# Altium footprint library DA14580.PcbLib: 18 footprints (part 1 of 2)
Each footprint in its own frame and in the unit in brackets; x right, y up, seen from the top. Pads: shape width x height; smd on the part's side, far side on the other; paste and mask are expansions set on the pad; w line width, h text height; cw(c..) or ccw(c..) is an arc to the next point about the centre after c.
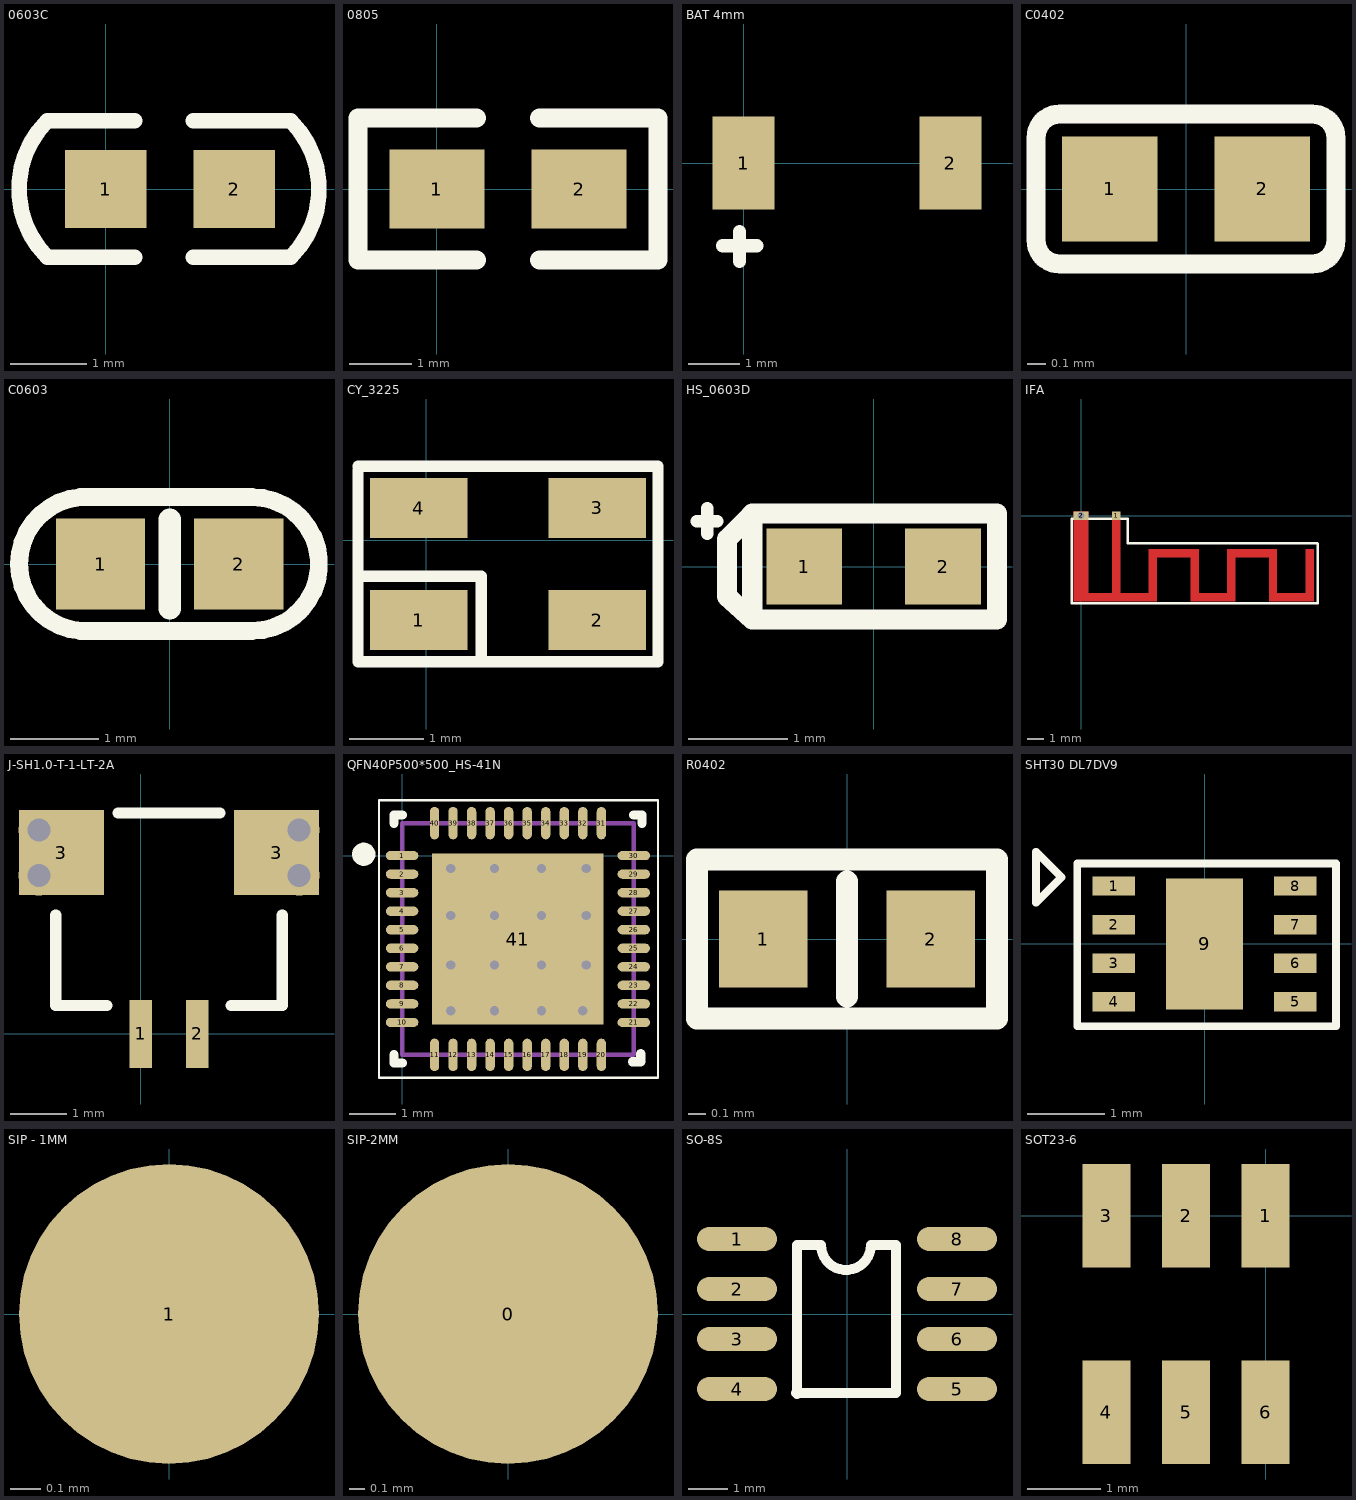
[diagram p0: the footprints below, top view; thin cyan lines are the x and y axes]

## 0603C [mil]
pads (2):
  rect 42x40 smd: 1(0,0) 2(66,0)
Top Overlay:
  lines w8: 15,-35 -30,-35 cw(c5,0) -30,35 15,35 ; 45,-35 95,-35 ccw(c60,0) 95,35 45,35

## 0805 [mil]
pads (2):
  rect 60x50 smd: 1(0,0) 2(90,0)
Top Overlay:
  lines w12: 25,-45 -50,-45 -50,45 25,45 ; 65,-45 140,-45 140,45 65,45

## BAT 4mm [mm]
height 0.305
pads (2):
  rect 1.2x1.8 smd: 1(0,0) 2(4,0)
Top Overlay:
  lines w0.254: -0.406,-1.6 0.254,-1.6 ; -0.076,-1.905 -0.076,-1.321

## C0402 [mil]
height 47.24
pads (2):
  rect 20x22 smd: 1(-16,0) 2(16,0)
Top Overlay:
  lines w4: -31.5,-10.75 ccw(c-26.5,-10.75) -26.5,-15.75 26.5,-15.75 ccw(c26.5,-10.75) 31.5,-10.75 31.5,10.75 ccw(c26.5,10.75) 26.5,15.75 -26.5,15.75 ccw(c-26.5,10.75) -31.5,10.75 -31.5,-10.75

## C0603 [mil]
pads (2):
  rect 40x41 smd: 1(-31,0) 2(31,0)
Top Overlay:
  lines w8: -40.03,30 ccw(c-37.51,0) -39.97,-30 ; -40,-30 37,-30 ccw(c37,0) 37,30 -40,30
  lines w10: 0,-20 0,20
3D body "User Library-0603 SMD Capacitor.step": height 12.49, standoff 0.6, extent -30.49,-14.74 32.5,16.76

## CY_3225 [mm]
pads (4):
  rect 1.3x0.8 smd: 1(-0.102,-1.067) 2(2.286,-1.067) 3(2.286,0.432) 4(-0.102,0.432)
Top Overlay:
  lines w0.152: -0.914,-1.473 -0.914,-1.397 ; -0.914,-0.483 0.737,-0.483 0.737,-1.626 ; -0.914,0.94 -0.914,-1.626 2.997,-1.626 ; -0.914,0.991 2.997,0.991 ; 1.448,0.991 3.099,0.991 3.099,-1.626 2.921,-1.626

## HS_0603D [mil]
height 100
pads (2):
  rect 30x30 smd: 1(-27.5,0) 2(27.5,0)
Top Overlay:
  lines w5: -70,18 -62,18 ; -66,13 -66,23
  lines w8: -49,20 -58.12,10.88 -58.12,-11.87 -48.12,-21 ; -48.12,20 -48.12,-21 ; -48.12,21 48.88,21 48.88,-21 -48.12,-21

## IFA [mm]
pads (17):
  rect 0.5x0.5 smd mask+0.003: 1(2.1,0)
  rect 0.9x0.5 smd mask+0.003: 2(0,0)
  rect 0.9x0.5 on Top Solder mask+0.003: 2(0,0)
  oval 0.7x0.5 hole 0.4 mask+0.01: 2(0,0)
  rect 0.5x0.5 on Top Solder mask+0: ""(0.2,-4.9)
  rect 0.5x0.5 on Top Solder mask+0.003: ""(2.1,-4.4) ""(2.1,0) ""(4.3,-4.9) ""(4.3,-2.26) ""(6.8,-4.9) ""(6.8,-2.26) ""(9,-4.9) ""(9,-2.26) ""(11.5,-4.9) ""(11.5,-2.26) ""(13.7,-4.9) ""(13.7,-2.26)
Top Layer:
  region: 13.45,-2.01 13.45,-5.15 13.95,-5.15 13.95,-2.01
  region: 11.25,-4.65 11.25,-5.15 13.95,-5.15 13.95,-4.65
  region: 11.75,-2.51 11.75,-2.01 9.048,-2.01 9.048,-2.51
  region: 11.25,-2.01 11.25,-5.15 11.75,-5.15 11.75,-2.01
  region: 4.05,-2.01 4.05,-5.15 4.55,-5.15 4.55,-2.01
  region: 1.849,-0.093 1.849,-4.9 2.35,-4.9 2.35,-0.093
  region: -0.45,0.25 -0.45,-5.15 0.449,-5.15 0.449,0.25
  region: 4.05,-2.01 4.05,-2.51 7.05,-2.51 7.05,-2.01
  region: 6.549,-2.01 6.549,-5.15 7.051,-5.15 7.051,-2.01
  region: 6.549,-4.65 6.549,-5.151 9.25,-5.151 9.25,-4.65
  region: 8.75,-2.01 8.75,-5.15 9.25,-5.15 9.25,-2.01
  lines w0.5: 0.2,-4.9 4.3,-4.9
Top Overlay:
  lines w0.15: 14.142,-1.67 2.8,-1.67 2.8,-0.175 -0.559,-0.175 -0.559,-5.258 14.173,-5.258 14.173,-1.676
Top Solder:
  lines w0.5: 0.2,-4.9 4.3,-4.9 4.3,-2.26 6.8,-2.26 6.8,-4.9 9,-4.9 9,-2.26 11.5,-2.26 11.5,-4.9 13.7,-4.9 13.7,-2.26 ; 2.1,-4.9 2.1,0
  lines w0.9: 0,-4.7 0,-0.2

## J-SH1.0-T-1-LT-2A [mm]
pads (4):
  rect 0.4x1.2 smd: 1(0,0) 2(1,0)
  rect 1.5x1.5 smd: 3(-1.4,3.2) 3(2.4,3.2)
via 2.8,2.8 diameter 0.711 hole 0.406
via 2.8,3.6 diameter 0.711 hole 0.406
via -1.8,3.6 diameter 0.711 hole 0.406
via -1.8,2.8 diameter 0.711 hole 0.406
Top Overlay:
  lines w0.2: -1.5,2.1 -1.5,0.5 -0.6,0.5 ; -0.4,3.9 1.4,3.9 ; 1.6,0.5 2.5,0.5 2.5,2.1

## QFN40P500*500_HS-41N [mm] "QFN, 44-Leads, Body 5.00x5.00mm, Pitch 0.40mm, Thermal Pad 2.45x2.45mm, IPC Medium Density"
height 0.8
pads (41):
  oval 0.7x0.2 smd: 1(0,0) 2(0,-0.4) 3(0,-0.8) 4(0,-1.2) 5(0,-1.6) 6(0,-2) 7(0,-2.4) 8(0,-2.8) 9(0,-3.2) 10(0,-3.6) 21(5,-3.6) 22(5,-3.2) 23(5,-2.8) 24(5,-2.4) 25(5,-2) 26(5,-1.6) 27(5,-1.2) 28(5,-0.8) 29(5,-0.4) 30(5,0)
  oval 0.2x0.7 smd: 11(0.7,-4.3) 12(1.1,-4.3) 13(1.5,-4.3) 14(1.9,-4.3) 15(2.3,-4.3) 16(2.7,-4.3) 17(3.1,-4.3) 18(3.5,-4.3) 19(3.9,-4.3) 20(4.3,-4.3) 31(4.3,0.7) 32(3.9,0.7) 33(3.5,0.7) 34(3.1,0.7) 35(2.7,0.7) 36(2.3,0.7) 37(1.9,0.7) 38(1.5,0.7) 39(1.1,0.7) 40(0.7,0.7)
  rect 3.7x3.7 smd: 41(2.5,-1.8)
via 3.008,-0.276 diameter 0.5 hole 0.2
via 1.992,-0.276 diameter 0.5 hole 0.2
via 1.052,-0.276 diameter 0.5 hole 0.2
via 1.992,-1.292 diameter 0.5 hole 0.2
via 3.008,-1.292 diameter 0.5 hole 0.2
via 3.973,-1.292 diameter 0.5 hole 0.2
via 1.052,-2.359 diameter 0.5 hole 0.2
via 1.992,-2.359 diameter 0.5 hole 0.2
via 3.008,-2.359 diameter 0.5 hole 0.2
via 3.973,-2.359 diameter 0.5 hole 0.2
via 1.052,-3.349 diameter 0.5 hole 0.2
via 1.992,-3.349 diameter 0.5 hole 0.2
via 3.008,-3.349 diameter 0.5 hole 0.2
via 1.052,-1.292 diameter 0.5 hole 0.2
via 3.973,-0.276 diameter 0.5 hole 0.2
via 3.897,-3.349 diameter 0.5 hole 0.2
Top Overlay:
  circle w0.25: c-0.827,0.029 r0.125
  lines w0.05: -0.497,-4.797 -0.497,1.197 5.523,1.197 5.523,-4.797 -0.497,-4.797
  lines w0.2: -0.175,-4.3 -0.175,-4.475 0,-4.475 ; -0.175,0.7 -0.175,0.875 0,0.875 ; 4.975,-4.45 5.15,-4.45 5.15,-4.275 ; 5,0.875 5.175,0.875 5.175,0.7
Mechanical 13:
  lines w0.1: 0,-4.3 5,-4.3 5,0.7 0,0.7 0,-4.3

## R0402 [mil]
pads (2):
  rect 20x22 smd: 1(-19,0) 2(19,0)
Top Overlay:
  lines w5: 0,-13 0,13 ; -34,-18 -34,18 34,18 34,-18 -34,-18

## SHT30 DL7DV9 [mm]
pads (9):
  rect 0.55x0.25 smd: 1(-1.175,0.75) 2(-1.175,0.25) 3(-1.175,-0.25) 4(-1.175,-0.75) 5(1.175,-0.75) 6(1.175,-0.25) 7(1.175,0.25) 8(1.175,0.75)
  rect 1x1.7 smd: 9(0,0)
Top Overlay:
  lines w0.1: -2.184,0.533 -2.184,1.194 -1.854,0.864 -2.184,0.533 ; -1.651,-1.067 1.702,-1.067 1.702,1.041 -1.651,1.041 -1.651,-1.067

## SIP - 1MM [mm]
pads (1):
  round 1 smd: 1(0,0)

## SIP-2MM [mm]
pads (1):
  round 2 smd: 0(0,0)

## SO-8S [mil]
pads (8):
  oval 80x24 smd: 1(-110,75) 2(-110,25) 3(-110,-25) 4(-110,-75) 5(110,-75) 6(110,-25) 7(110,25) 8(110,75)
Top Overlay:
  lines w10: -51,-79 49,-79 49,69 24,69 cw(c-1,69) -26,69 -50,69 -50,-80

## SOT23-6 [mil]
pads (6):
  rect 26x56 smd: 1(0,0) 2(-43,0) 3(-86,0) 4(-86,-106) 5(-43,-106) 6(0,-106)